# Altium footprint library stm32f103core.PcbLib: 20 footprints (part 1 of 2)
Each footprint in its own frame and in the unit in brackets; x right, y up, seen from the top. Pads: shape width x height; smd on the part's side, far side on the other; paste and mask are expansions set on the pad; w line width, h text height; cw(c..) or ccw(c..) is an arc to the next point about the centre after c.
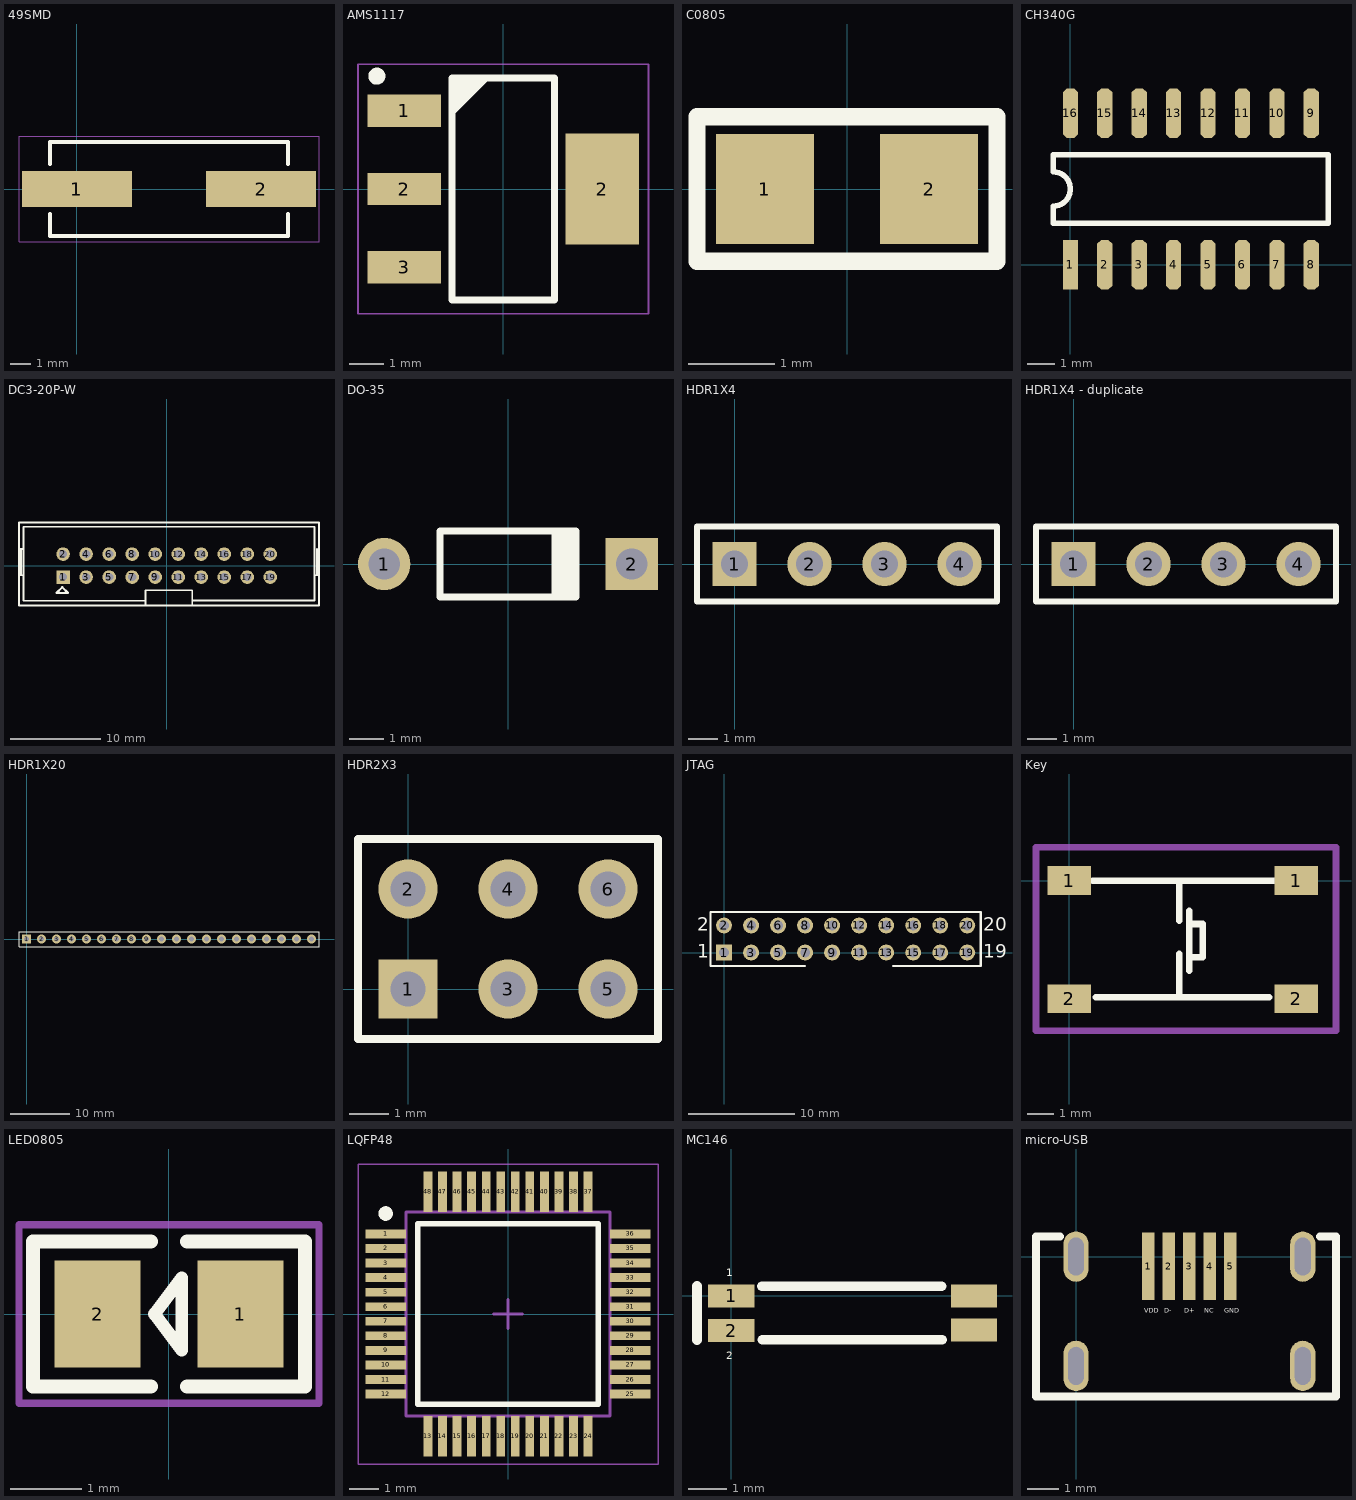
[diagram p0: the footprints below, top view; thin cyan lines are the x and y axes]

## 49SMD [mm] "8M"
pads (2):
  rect 5.5x1.8 smd: 1(0,0) 2(9.2,0)
Top Overlay:
  lines w0.2: -1.35,-1.25 -1.35,-2.35 10.55,-2.35 10.55,-1.25 ; -1.35,1.25 -1.35,2.35 10.55,2.35 10.55,1.25
Mechanical 15:
  lines w0.05: -2.9,-2.65 -2.9,2.65 12.1,2.65 12.1,-2.65 -2.9,-2.65
3D body "User Library-HC49-SMD.STEP": height 5.1, standoff 0, extent -2.928,-2.25 12.072,2.25

## AMS1117 [mm] "AMS1117"
pads (4):
  rect 2.15x0.95 smd: 1(-2.9,2.29) 2(-2.9,0) 3(-2.9,-2.29)
  rect 2.15x3.25 smd: 2(2.9,0)
Top Overlay:
  circle w0.25: c-3.7,3.3 r0.125
  lines w0.2: -1.5,2.25 -0.5,3.25 ; -1.5,2.45 -0.7,3.25 ; -1.5,2.65 -0.9,3.25 ; -1.5,2.85 -1.1,3.25 ; -1.5,3.05 -1.3,3.25 ; -1.5,-3.25 -1.5,3.25 1.5,3.25 1.5,-3.25 -1.5,-3.25
Mechanical 15:
  lines w0.05: -4.25,-3.65 -4.25,3.65 4.25,3.65 4.25,-3.65 -4.25,-3.65
3D body "User Library-AMS1117-1.STEP": height 1.7, standoff -0.16, extent -3.5,-3.253 3.5,3.253

## C0805 [mm] "Chip Capacitor, Body 2.0x1.3mm, IPC High Density"
height 1.4
pads (2):
  rect 1.14x1.27 smd: 1(-0.95,0) 2(0.95,0)
Top Overlay:
  lines w0.2: -1.737,-0.838 1.737,-0.838 1.737,0.838 -1.737,0.838 -1.737,-0.838
3D body "User Library-0805(2012M) Cap.STEP": height 0.77, standoff -0.02, extent -1.315,-0.622 1.193,0.622

## CH340G [mil]
pads (16):
  rect 22x72 smd: 1(0,0)
  oct 22x72 smd: 2(50,0) 3(100,0) 4(150,0) 5(200,0) 6(250,0) 7(300,0) 8(350,0) 9(350,220) 10(300,220) 11(250,220) 12(200,220) 13(150,220) 14(100,220) 15(50,220) 16(0,220)
Top Overlay:
  lines w8: -25,60 -25,85 ccw(c-25,110) -25,135 -25,160 375,160 375,60 -25,60
3D body "User Library-SOP16_208mil (5_3mm).STEP": height 78.74, standoff 0, extent -25.79,-50.92 375.78,260.93

## DC3-20P-W [mm]
pads (20):
  rect 1.5x1.5 hole 0.9: 1(-11.43,-1.27)
  round 1.5 hole 0.9: 2(-11.43,1.27) 3(-8.89,-1.27) 4(-8.89,1.27) 5(-6.35,-1.27) 6(-6.35,1.27) 7(-3.81,-1.27) 8(-3.81,1.27) 9(-1.27,-1.27) 10(-1.27,1.27) 11(1.27,-1.27) 12(1.27,1.27) 13(3.81,-1.27) 14(3.81,1.27) 15(6.35,-1.27) 16(6.35,1.27) 17(8.89,-1.27) 18(8.89,1.27) 19(11.43,-1.27) 20(11.43,1.27)
Top Overlay:
  lines w0.2: -16.307,-1.067 -15.799,-1.067 ; -16.307,1.829 -15.799,1.829 ; -16.078,-1.041 -16.078,1.829 ; -2.356,-3.886 -15.799,-3.886 -15.799,4.293 16.307,4.293 16.307,-3.861 2.824,-3.861 ; -2.337,-4.394 -2.337,-2.718 2.819,-2.718 2.819,-4.343 ; 16.307,-1.067 16.815,-1.067 ; 16.586,-1.041 16.586,1.829 ; -16.307,-4.394 16.815,-4.394 16.815,4.75 -16.307,4.75 -16.307,-4.394
  lines w0.25: -12.167,-3.023 -10.897,-3.023 -11.532,-2.388 -12.167,-3.023
3D body "User Library-Samtec-TSS-110-01-G-D.STEP": height 3.3, standoff -8.89, extent -14.351,-4.902 14.859,4.572

## DO-35 [mm] "Diode, Axial; Body 3.8 x 1.9 mm (LxDia. max), Lead Dia. 0.53 mm (max)"
height 1.9
pads (2):
  round 1.5 hole 0.9: 1(-3.55,0)
  rect 1.5x1.5 hole 0.9: 2(3.55,0)
Top Overlay:
  rectangle: 1.25,-0.95 2.05,0.95
  lines w0.2: 1.95,-0.95 -1.95,-0.95 -1.95,0.95 1.95,0.95
3D body "User Library-1n4148-1.STEP": height 2.1, standoff -4.4, extent -3.75,-1 3.75,1

## HDR1X4 [mm] "Connector; Header; 4 Position"
pads (4):
  rect 1.5x1.5 hole 0.9: 1(0,0)
  round 1.5 hole 0.9: 2(2.54,0) 3(5.08,0) 4(7.62,0)
Top Overlay:
  lines w0.2: -1.27,-1.27 8.89,-1.27 8.89,1.27 -1.27,1.27 -1.27,-1.27
3D body "pin_header_aw140-eg-g04d.stp": height 8.2, standoff -3, extent -1.143,-1.249 9.017,1.249

## HDR1X4 - duplicate [mm] "Connector; Header; 4 Position"
pads (4):
  rect 1.5x1.5 hole 0.9: 1(0,0)
  round 1.5 hole 0.9: 2(2.54,0) 3(5.08,0) 4(7.62,0)
Top Overlay:
  lines w0.2: -1.27,-1.27 -1.27,1.27 8.89,1.27 8.89,-1.27 -1.27,-1.27

## HDR1X20 [mm] "Connector; Header; 20 Position"
pads (20):
  rect 1.5x1.5 hole 0.9: 1(0,0)
  round 1.5 hole 0.9: 2(2.54,0) 3(5.08,0) 4(7.62,0) 5(10.16,0) 6(12.7,0) 7(15.24,0) 8(17.78,0) 9(20.32,0) 10(22.86,0) 11(25.4,0) 12(27.94,0) 13(30.48,0) 14(33.02,0) 15(35.56,0) 16(38.1,0) 17(40.64,0) 18(43.18,0) 19(45.72,0) 20(48.26,0)
Top Overlay:
  lines w0.2: -1.27,-1.27 49.53,-1.27 49.53,1.27 0.635,1.27 -1.27,1.27 -1.27,-1.27
3D body "pin_header_ap_126-20_g-n.stp": height 3.1, standoff -5.6, extent -1.27,-1.23 49.53,1.27

## HDR2X3 [mm] "Connector; Header; 3x2 Position"
pads (6):
  rect 1.5x1.5 hole 0.9: 1(0,0)
  round 1.5 hole 0.9: 2(0,2.54) 3(2.54,0) 4(2.54,2.54) 5(5.08,0) 6(5.08,2.54)
Top Overlay:
  lines w0.2: 1.482,-1.27 6.35,-1.27 ; 6.35,-1.27 -1.27,-1.27 -1.27,3.81 6.35,3.81 6.35,-1.27
3D body "pin_header_awl254-dg-g06d.stp": height 8.5, standoff -3, extent -1.27,-1.27 6.35,3.81

## JTAG [mm] "Connector; Header; 10x2 Position"
pads (20):
  rect 1.5x1.5 hole 0.9: 1(0,0)
  round 1.5 hole 0.9: 2(0,2.54) 3(2.54,0) 4(2.54,2.54) 5(5.08,0) 6(5.08,2.54) 7(7.62,0) 8(7.62,2.54) 9(10.16,0) 10(10.16,2.54) 11(12.7,0) 12(12.7,2.54) 13(15.24,0) 14(15.24,2.54) 15(17.78,0) 16(17.78,2.54) 17(20.32,0) 18(20.32,2.54) 19(22.86,0) 20(22.86,2.54)
Top Overlay:
  lines w0.2: 7.62,-1.27 4.826,-1.27 0.635,-1.27 -1.27,-1.27 -1.27,3.81 0.635,3.81 24.13,3.81 24.13,-1.27 15.875,-1.27
  text "20" at 24.384,2.032 h1.27
  text "19" at 24.384,-0.508 h1.27
  text "1" at -2.54,-0.508 h1.27
  text "2" at -2.54,2.032 h1.27
3D body "User Library-Samtec-TSS-110-01-G-D.STEP": height 8.89, standoff -3.3, extent -3.175,-3.302 26.035,6.172

## Key [mm] "四脚贴片按键"
pads (4):
  rect 1.65x1.1 smd: 1(0,0) 1(8.65,0) 2(0,-4.5) 2(8.65,-4.5)
Top Overlay:
  lines w0.254: 0.889,0 7.874,0 ; 1.016,-4.445 7.62,-4.445 ; 4.191,-4.318 4.191,-2.794 ; 4.191,-1.524 4.191,0 ; 4.572,-3.429 4.572,-3.175 4.572,-1.143 ; 4.572,-2.921 5.08,-2.921 5.08,-1.651 4.572,-1.651
Mechanical 15:
  lines w0.254: -1.27,-5.715 -1.27,1.27 10.16,1.27 10.16,-5.715 -1.27,-5.715
3D body "b3s-1000p.stp": height 4.3, standoff 0, extent 0.068,-5.586 8.568,1.014

## LED0805 [mm]
pads (2):
  rect 1.2x1.5 smd: 1(1,0) 2(-1,0)
Top Overlay:
  lines w0.178: -0.203,0 0.178,-0.508 0.178,0.508 -0.203,0
  lines w0.2: -0.254,-1.016 -1.905,-1.016 -1.905,1.016 -0.254,1.016 ; 0.254,-1.016 1.905,-1.016 1.905,1.016 0.254,1.016
Mechanical 15:
  lines w0.1: -2.1,-1.25 2.1,-1.25 2.1,1.25 -2.1,1.25 -2.1,-1.25
3D body "User Library-User Library-led_0805 YEL.STEP": height 1.1, standoff 0, extent -1.01,-0.625 1.01,0.625

## LQFP48 [mm] "TSQFP, 48-Leads, Body 7.00x7.00mm, Pitch 0.50mm, IPC Medium Density"
height 1.6
pads (48):
  rect 1.4x0.3 smd: 1(-4.2,2.75) 2(-4.2,2.25) 3(-4.2,1.75) 4(-4.2,1.25) 5(-4.2,0.75) 6(-4.2,0.25) 7(-4.2,-0.25) 8(-4.2,-0.75) 9(-4.2,-1.25) 10(-4.2,-1.75) 11(-4.2,-2.25) 12(-4.2,-2.75) 25(4.2,-2.75) 26(4.2,-2.25) 27(4.2,-1.75) 28(4.2,-1.25) 29(4.2,-0.75) 30(4.2,-0.25) 31(4.2,0.25) 32(4.2,0.75) 33(4.2,1.25) 34(4.2,1.75) 35(4.2,2.25) 36(4.2,2.75)
  rect 0.3x1.4 smd: 13(-2.75,-4.2) 14(-2.25,-4.2) 15(-1.75,-4.2) 16(-1.25,-4.2) 17(-0.75,-4.2) 18(-0.25,-4.2) 19(0.25,-4.2) 20(0.75,-4.2) 21(1.25,-4.2) 22(1.75,-4.2) 23(2.25,-4.2) 24(2.75,-4.2) 37(2.75,4.2) 38(2.25,4.2) 39(1.75,4.2) 40(1.25,4.2) 41(0.75,4.2) 42(0.25,4.2) 43(-0.25,4.2) 44(-0.75,4.2) 45(-1.25,4.2) 46(-1.75,4.2) 47(-2.25,4.2) 48(-2.75,4.2)
Top Overlay:
  circle w0.25: c-4.2,3.45 r0.125
  lines w0.2: -3.1,-3.1 -3.1,3.1 3.1,3.1 3.1,-3.1 -3.1,-3.1
Mechanical 13:
  lines w0.1: -3.5,-3.5 -3.5,3.5 3.5,3.5 3.5,-3.5 -3.5,-3.5
Mechanical 15:
  lines w0.05: -5.15,-5.15 -5.15,5.15 5.15,5.15 5.15,-5.15 -5.15,-5.15
  lines w0.1: -0.5,0 0.5,0 ; 0,-0.5 0,0.5
3D body "User Library-LQFP50P900X900X160.STEP": height 1.6, standoff 0, extent -4.5,-4.5 4.5,4.5

## MC146 [mm] "32.768K"
pads (4):
  rect 1.2x0.6 smd: 1(0,0) 2(0,-0.9) ""(6.3,-0.889) ""(6.3,0)
Top Overlay:
  lines w0.254: -0.889,-1.143 -0.889,0.254 ; 0.799,0.25 5.467,0.25 ; 0.811,-1.143 5.479,-1.143
  text "1" at -0.127,0.508 h0.2
  text "2" at -0.127,-1.651 h0.2
3D body "User Library-CSYTAL-MC146.STEP": height 1.4, standoff 0, extent -0.275,-1.246 6.625,0.254

## micro-USB [mm]
pads (9):
  rect 0.4x2.15 smd: 1(2.3,-0.31) 2(2.95,-0.31) 3(3.6,-0.31) 4(4.25,-0.31) 5(4.9,-0.31)
  oval 0.8x1.6 hole 0.5 slot 1.2 at 90 deg: ""(0,-3.47) ""(0,0) ""(7.2,-3.47) ""(7.2,0)
Top Overlay:
  lines w0.254: -0.508,0.635 -1.27,0.635 -1.27,-4.445 8.255,-4.445 8.255,0.635 7.747,0.635
  text "VDD" at 2.159,-1.778 h0.15
  text "D-" at 2.794,-1.778 h0.15
  text "D+" at 3.429,-1.778 h0.15
  text "NC" at 4.064,-1.778 h0.15
  text "GND" at 4.699,-1.778 h0.15